# EAGLE library part TMM-108-03-D-G (library MAX9812)
Samtec TMM Board-Stacker serie. Double Row
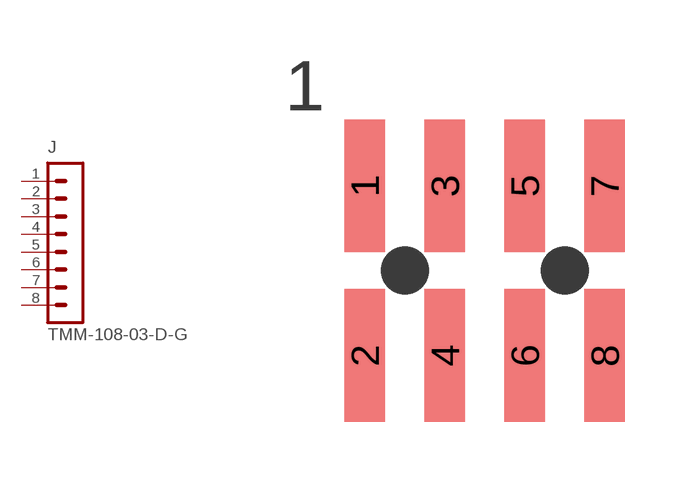
[diagram p45: symbol with the pads of TMM-108-D; footprint TMM-108-D]

Designator prefix J

## TMM-108-03-D-G  [TMM-108-D]
1  1  pas
2  2  pas
3  3  pas
4  4  pas
5  5  pas
6  6  pas
7  7  pas
8  8  pas

## Footprint TMM-108-D (pad centres in mm)
smd 1.02 x 3.32: 1 -3,2.122; 2 -3,-2.122; 3 -1,2.122; 4 -1,-2.122; 5 1,2.122; 6 1,-2.122; 7 3,2.122; 8 3,-2.122